# EAGLE library part STM32F100C8 (library rs41)
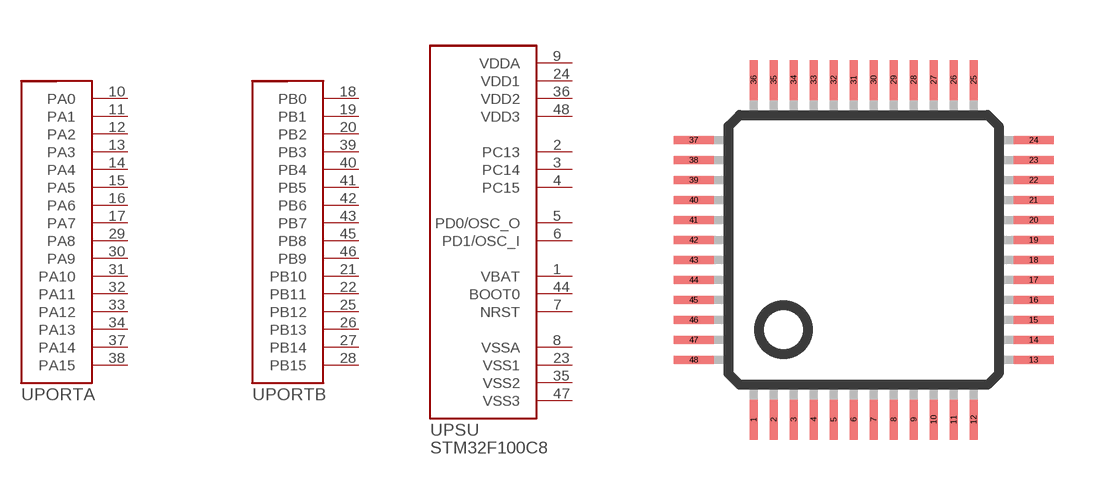
[diagram p9: symbol with the pads of LQFP48; footprint LQFP48]

Designator prefix U; gates PORTA=PORTA PORTB=PORTB PSU=PORTC+D+PSU

## STM32F100C8LQFP48  [LQFP48]
1  PSU:VBAT
2  PSU:PC13
3  PSU:PC14
4  PSU:PC15
5  PSU:PD0/OSC_O
6  PSU:PD1/OSC_I
7  PSU:NRST
8  PSU:VSSA
9  PSU:VDDA
10  PORTA:PA0
11  PORTA:PA1
12  PORTA:PA2
13  PORTA:PA3
14  PORTA:PA4
15  PORTA:PA5
16  PORTA:PA6
17  PORTA:PA7
18  PORTB:PB0
19  PORTB:PB1
20  PORTB:PB2
21  PORTB:PB10
22  PORTB:PB11
23  PSU:VSS1
24  PSU:VDD1
25  PORTB:PB12
26  PORTB:PB13
27  PORTB:PB14
28  PORTB:PB15
29  PORTA:PA8
30  PORTA:PA9
31  PORTA:PA10
32  PORTA:PA11
33  PORTA:PA12
34  PORTA:PA13
35  PSU:VSS2
36  PSU:VDD2
37  PORTA:PA14
38  PORTA:PA15
39  PORTB:PB3
40  PORTB:PB4
41  PORTB:PB5
42  PORTB:PB6
43  PORTB:PB7
44  PSU:BOOT0
45  PORTB:PB8
46  PORTB:PB9
47  PSU:VSS3
48  PSU:VDD3

## Footprint LQFP48 (pad centres in mm)
48-pin plastic LQFP (FPT-48P-M26) www.fma.fujitsu.com/pdf/e713717.pdf
smd 0.2 x 1: 1 -2.75,-4.25; 2 -2.25,-4.25; 3 -1.75,-4.25; 4 -1.25,-4.25; 5 -0.75,-4.25; 6 -0.25,-4.25; 7 0.25,-4.25; 8 0.75,-4.25; 9 1.25,-4.25; 10 1.75,-4.25; 11 2.25,-4.25; 12 2.75,-4.25; 25 2.75,4.25; 26 2.25,4.25; 27 1.75,4.25; 28 1.25,4.25; 29 0.75,4.25; 30 0.25,4.25; 31 -0.25,4.25; 32 -0.75,4.25; 33 -1.25,4.25; 34 -1.75,4.25; 35 -2.25,4.25; 36 -2.75,4.25
smd 1 x 0.2: 13 4.25,-2.75; 14 4.25,-2.25; 15 4.25,-1.75; 16 4.25,-1.25; 17 4.25,-0.75; 18 4.25,-0.25; 19 4.25,0.25; 20 4.25,0.75; 21 4.25,1.25; 22 4.25,1.75; 23 4.25,2.25; 24 4.25,2.75; 37 -4.25,2.75; 38 -4.25,2.25; 39 -4.25,1.75; 40 -4.25,1.25; 41 -4.25,0.75; 42 -4.25,0.25; 43 -4.25,-0.25; 44 -4.25,-0.75; 45 -4.25,-1.25; 46 -4.25,-1.75; 47 -4.25,-2.25; 48 -4.25,-2.75